# Altium schematic symbol library Flash Memory.schlib: 1 symbol
Pins are listed as number, name and electrical type; pins without a type are passive.

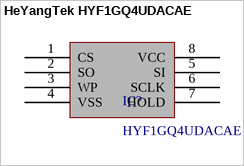
[diagram p0: symbol HeYangTek HYF1GQ4UDACAE]

## HeYangTek HYF1GQ4UDACAE
designator IC?, comment HYF1GQ4UDACAE
footprint HeYangTek WSON-8-EP (SON, 8-Leads, Body 6,00x8,00mm, Pitch 1,27mm, Thermal Pad 4,30x3,40mm, IPC Medium Density)
pins: 1 CS, 2 SO, 3 WP, 4 VSS, 5 SI, 6 SCLK, 7 HOLD, 8 VCC